# Altium schematic symbol library SN3257QPWRQ1.SchLib: 1 symbol
Pins are listed as number, name and electrical type; pins without a type are passive.

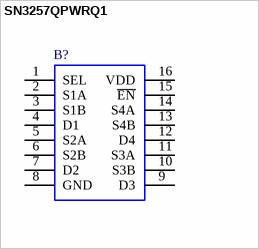
[diagram p0: symbol SN3257QPWRQ1]

## SN3257QPWRQ1
designator B?
PRECISION ANALOG MULTIPLEXER; Manufacturer_Name: Texas Instruments; Geometry.Height: 1.2mm; Mouser2 Part Number: *; Mouser2 Price/Stock: *; Manufacturer_Part_Number: SN3257QPWRQ1; Datasheet Link: https://www.ti.com/lit/gpn/SN3257-Q1
footprint SOP65P640X120-16N
pins: 1 SEL, 2 S1A, 3 S1B, 4 D1, 5 S2A, 6 S2B, 7 D2, 8 GND, 9 D3, 10 S3B, 11 S3A, 12 D4, 13 S4B, 14 S4A, 15 ~{EN}, 16 VDD